# Altium integrated library ESP32_C3_MINI_1_H4.IntLib: 1 symbol
Pins are listed as number, name and electrical type; pins without a type are passive.

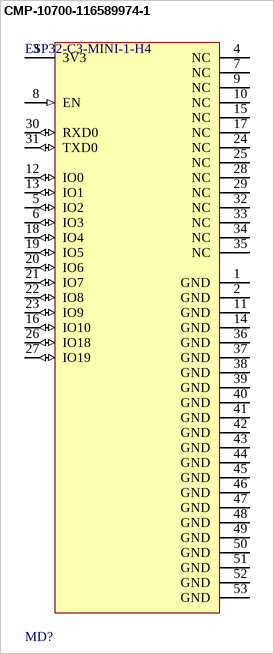
[diagram p0: symbol CMP-10700-116589974-1]

## CMP-10700-116589974-1
designator MD?, comment ESP32-C3-MINI-1-H4
Multiprotocol Modules SMD module, ESP32-C3FH4, PCB antenna, -40 C +105 C; Data Rate: 150Mbps; Number of GPIO: 13; Current - Transmitting: 350mA; Max Frequency: 2.484GHz; Current - Receiving: 84mA; Max Supply Voltage: 3.6V; Min Supply Voltage: 3V; Interface: SPI; Min Operating Temperature: -40°C; Height: 2.55mm; Ambient Temperature Range High: 85°C; Max Operating Temperature: 85°C
footprint FP-ESP32-C3-MINI-1-H4-MFG
pins: 1 GND (power), 2 GND (power), 3 3V3 (power), 4 NC, 5 IO2 (io), 6 IO3 (io), 7 NC, 8 EN (in), 9 NC, 10 NC, 11 GND (power), 12 IO0 (io), 13 IO1 (io), 14 GND (power), 15 NC, 16 IO10 (io), 17 NC, 18 IO4 (io), 19 IO5 (io), 20 IO6 (io), 21 IO7 (io), 22 IO8 (io), 23 IO9 (io), 24 NC, 25 NC, 26 IO18 (io), 27 IO19 (io), 28 NC, 29 NC, 30 RXD0 (io), 31 TXD0 (io), 32 NC, 33 NC, 34 NC, 35 NC, 36 GND (power), 37 GND (power), 38 GND (power), 39 GND (power), 40 GND (power), 41 GND (power), 42 GND (power), 43 GND (power), 44 GND (power), 45 GND (power), 46 GND (power), 47 GND (power), 48 GND (power), 49 GND (power), 50 GND (power), 51 GND (power), 52 GND (power), 53 GND (power)